# EAGLE library part ERM8-005-01-D-EMX (library con-samtec-er8)
ERM8 Series - Male Right Angle Edge Mount
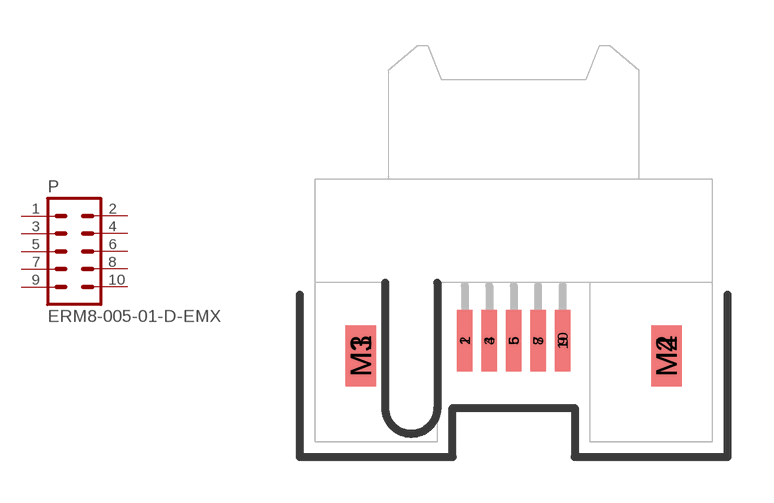
[diagram p40: symbol with the pads of ERM8-005-01-D-EMX; footprint ERM8-005-01-D-EMX]

Designator prefix P

## ERM8-005-01-D-EMX  [ERM8-005-01-D-EMX]
1  1  pas
2  2  pas
3  3  pas
4  4  pas
5  5  pas
6  6  pas
7  7  pas
8  8  pas
9  9  pas
10  10  pas

## Footprint ERM8-005-01-D-EMX (pad centres in mm)
0.8mm Edge Rate Terminal Assembly MALE, Double Row, 5 Position
smd 0.5 x 2 bottom: 1 -1.6,-1.9; 3 -0.8,-1.9; 5 0,-1.9; 7 0.8,-1.9; 9 1.6,-1.9
smd 0.5 x 2: 2 -1.6,-1.899; 4 -0.8,-1.899; 6 0,-1.899; 8 0.8,-1.899; 10 1.6,-1.899
smd 1 x 2: M1 -5,-2.399; M2 5,-2.399
smd 1 x 2 bottom: M3 -5,-2.4; M4 5,-2.4